# Altium schematic symbol library smd push button.SchLib: 1 symbol
Pins are listed as number, name and electrical type; pins without a type are passive.

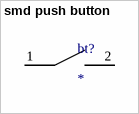
[diagram p0: symbol smd push button]

## smd push button
designator bt?
footprint smd push button
pins: 1 38, 2 37